# Altium footprint library lianchen_lib.PcbLib: 233 footprints (part 1 of 15)
Each footprint in its own frame and in the unit in brackets; x right, y up, seen from the top. Pads: shape width x height; smd on the part's side, far side on the other; paste and mask are expansions set on the pad; w line width, h text height; cw(c..) or ccw(c..) is an arc to the next point about the centre after c.
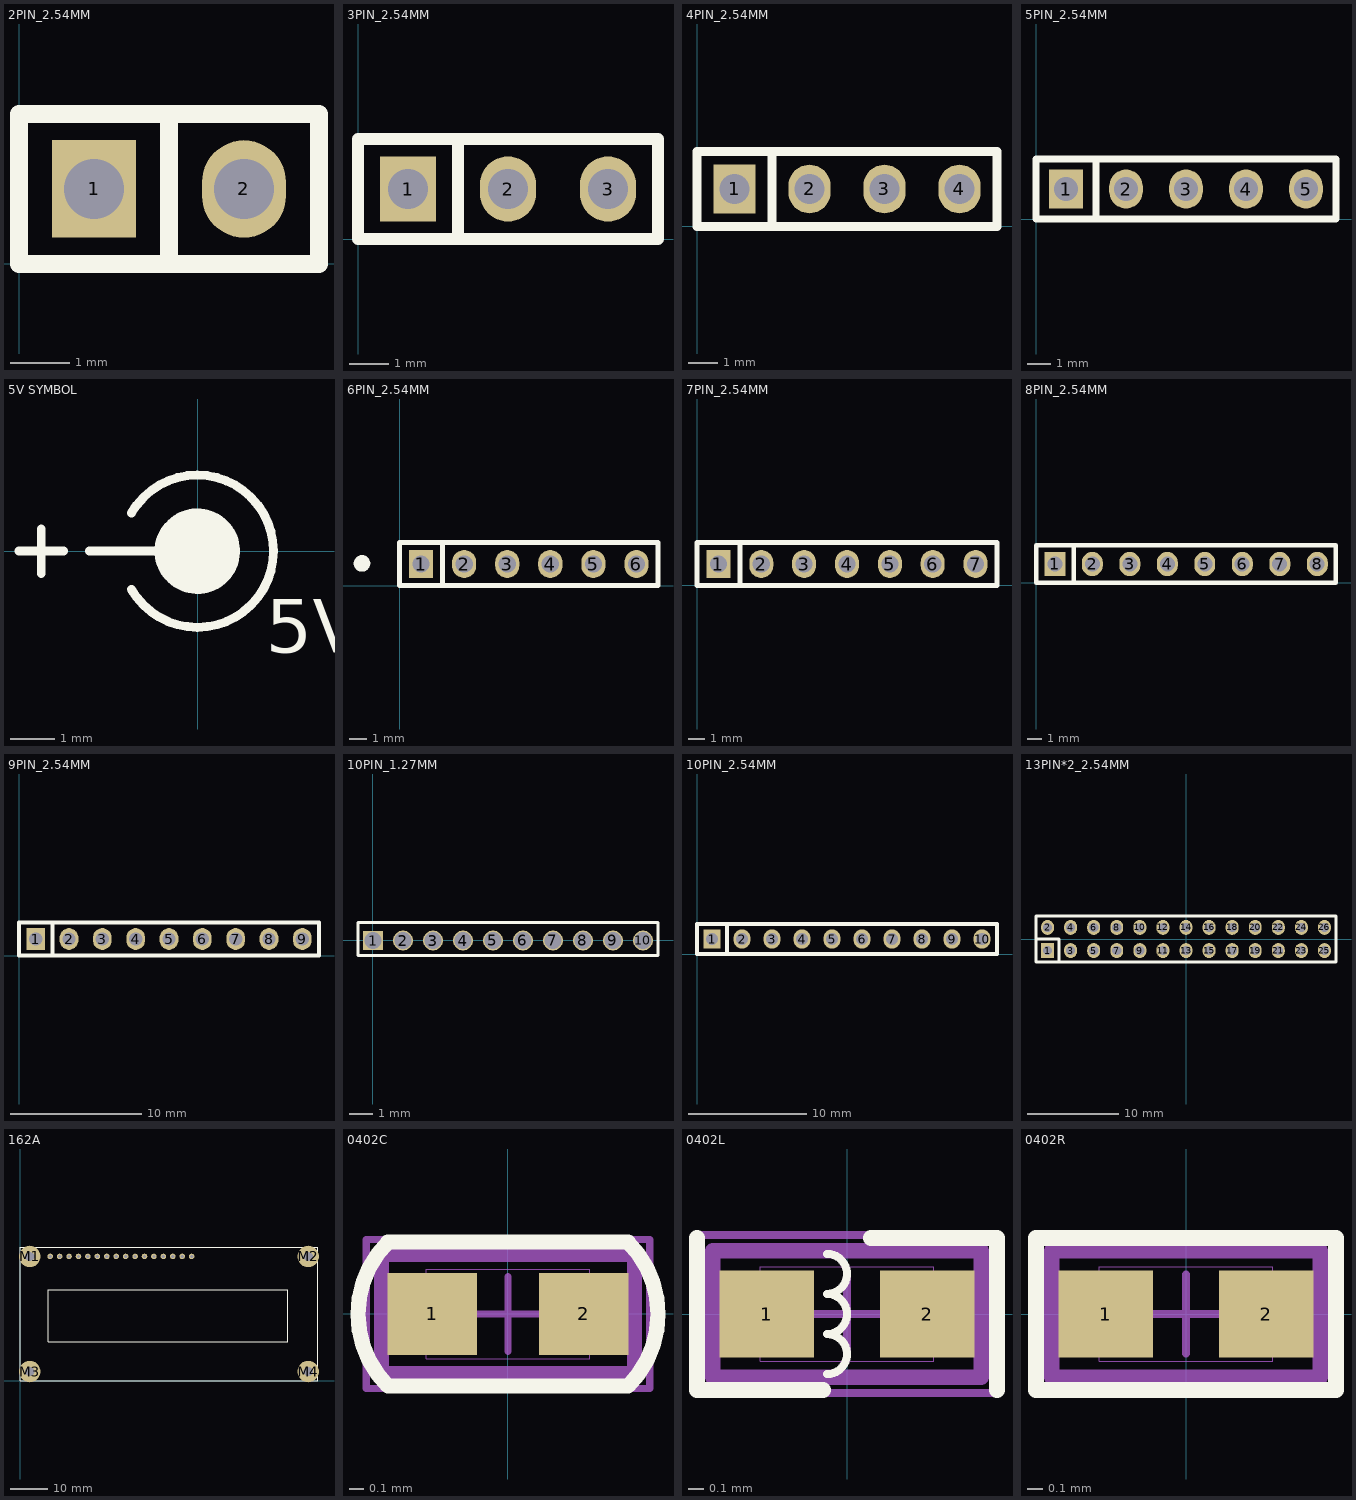
[diagram p0: the footprints below, top view; thin cyan lines are the x and y axes]

## 2PIN_2.54MM [mil]
pads (2):
  rect 56x65 hole 40: 1(50,50)
  oval 56x65 hole 40: 2(150,50)
Top Overlay:
  lines w12: 100,0 100,100 0,100 0,0 200,0
  lines w12.01: 100,100 200,100 200,0
3D body "HEADER.STEP": height 298.43, standoff -115.75, extent 100,0 200,100
3D body "HEADER.STEP": height 298.43, standoff -115.75, extent 0,0 100,100

## 3PIN_2.54MM [mil]
pads (3):
  rect 56x65 hole 40: 1(50,50)
  oval 56x65 hole 40: 2(150,50) 3(250,50)
Top Overlay:
  lines w12: 100,0 100,100 ; 100,100 0,100 0,0 300,0 300,100 100,100
3D body "HEADER.STEP": height 298.43, standoff -115.75, extent 200,0 300,100
3D body "HEADER.STEP": height 298.43, standoff -115.75, extent 0,0 100,100
3D body "HEADER.STEP": height 298.43, standoff -115.75, extent 100,0 200,100

## 4PIN_2.54MM [mil]
pads (4):
  rect 56x65 hole 40: 1(50,50)
  oval 56x65 hole 40: 2(150,50) 3(250,50) 4(350,50)
Top Overlay:
  lines w12: 100,0 100,100 0,100 ; 0,100 400,100 400,0 0,0 0,100
3D body "HEADER.STEP": height 298.43, standoff -115.75, extent 100,0 200,100
3D body "HEADER.STEP": height 298.43, standoff -115.75, extent 0,0 100,100
3D body "HEADER.STEP": height 298.43, standoff -115.75, extent 300,0 400,100
3D body "HEADER.STEP": height 298.43, standoff -115.75, extent 200,0 300,100

## 5PIN_2.54MM [mil]
pads (5):
  rect 56x65 hole 40: 1(50,50)
  oval 56x65 hole 40: 2(150,50) 3(250,50) 4(350,50) 5(450,50)
Top Overlay:
  lines w12: 100,0 100,100 ; 0,0 0,100 500,100 500,0 0,0
3D body "HEADER.STEP": height 298.43, standoff -115.75, extent 400,0 500,100
3D body "HEADER.STEP": height 298.43, standoff -115.75, extent 200,0 300,100
3D body "HEADER.STEP": height 298.43, standoff -115.75, extent 300,0 400,100
3D body "HEADER.STEP": height 298.43, standoff -115.75, extent 0,0 100,100
3D body "HEADER.STEP": height 298.43, standoff -115.75, extent 100,0 200,100

## 5V SYMBOL [mm]
Top Overlay:
  circle w1: c-0.007,-0.002 r0.458
  lines w0.2: -4.007,-0.002 -3.007,-0.002 ; -3.507,-0.502 -3.507,0.498 ; -2.423,-0.002 -0.007,-0.002 ; -1.486,-0.856 ccw(c-0.007,-0.002) -1.486,0.853
  text "5V DC" at 1.524,-2.286 h1.2

## 6PIN_2.54MM [mil]
pads (6):
  rect 56x65 hole 40: 1(50,50)
  oval 56x65 hole 40: 2(150,50) 3(250,50) 4(350,50) 5(450,50) 6(550,50)
Top Overlay:
  circle w20: c-87.22,51.4 r9.22
  lines w12: 100,0 100,100 ; 0,0 0,100 600,100 600,0 0,0
3D body "HEADER.STEP": height 298.43, standoff -115.75, extent 400,0 500,100
3D body "HEADER.STEP": height 298.43, standoff -115.75, extent 500,0 600,100
3D body "HEADER.STEP": height 298.43, standoff -115.75, extent 200,0 300,100
3D body "HEADER.STEP": height 298.43, standoff -115.75, extent 300,0 400,100
3D body "HEADER.STEP": height 298.43, standoff -115.75, extent 0,0 100,100
3D body "HEADER.STEP": height 298.43, standoff -115.75, extent 100,0 200,100

## 7PIN_2.54MM [mil]
pads (7):
  rect 56x65 hole 40: 1(50,50)
  oval 56x65 hole 40: 2(150,50) 3(250,50) 4(350,50) 5(450,50) 6(550,50) 7(650,50)
Top Overlay:
  lines w12: 100,0 100,100 ; 0,0 700,0 700,100 0,100 0,0
3D body "HEADER.STEP": height 298.43, standoff -115.75, extent 100,0 200,100
3D body "HEADER.STEP": height 298.43, standoff -115.75, extent 0,0 100,100
3D body "HEADER.STEP": height 298.43, standoff -115.75, extent 300,0 400,100
3D body "HEADER.STEP": height 298.43, standoff -115.75, extent 200,0 300,100
3D body "HEADER.STEP": height 298.43, standoff -115.75, extent 500,0 600,100
3D body "HEADER.STEP": height 298.43, standoff -115.75, extent 400,0 500,100
3D body "HEADER.STEP": height 298.43, standoff -115.75, extent 600,0 700,100

## 8PIN_2.54MM [mil]
pads (8):
  rect 56x65 hole 40: 1(50,50)
  oval 56x65 hole 40: 2(150,50) 3(250,50) 4(350,50) 5(450,50) 6(550,50) 7(650,50) 8(750,50)
Top Overlay:
  lines w12: 100,0 100,100 ; 0,0 800,0 800,100 0,100 0,0
3D body "HEADER.STEP": height 298.43, standoff -115.75, extent 100,0 200,100
3D body "HEADER.STEP": height 298.43, standoff -115.75, extent 0,0 100,100
3D body "HEADER.STEP": height 298.43, standoff -115.75, extent 300,0 400,100
3D body "HEADER.STEP": height 298.43, standoff -115.75, extent 200,0 300,100
3D body "HEADER.STEP": height 298.43, standoff -115.75, extent 500,0 600,100
3D body "HEADER.STEP": height 298.43, standoff -115.75, extent 400,0 500,100
3D body "HEADER.STEP": height 298.43, standoff -115.75, extent 700,0 800,100
3D body "HEADER.STEP": height 298.43, standoff -115.75, extent 600,0 700,100

## 9PIN_2.54MM [mil]
pads (9):
  rect 56x65 hole 40: 1(50,50)
  oval 56x65 hole 40: 2(150,50) 3(250,50) 4(350,50) 5(450,50) 6(550,50) 7(650,50) 8(750,50) 9(850,50)
Top Overlay:
  lines w12: 100,0 100,100 ; 0,0 900,0 900,100 0,100 0,0
3D body "HEADER.STEP": height 298.43, standoff -115.75, extent 100,0 200,100
3D body "HEADER.STEP": height 298.43, standoff -115.75, extent 0,0 100,100
3D body "HEADER.STEP": height 298.43, standoff -115.75, extent 300,0 400,100
3D body "HEADER.STEP": height 298.43, standoff -115.75, extent 200,0 300,100
3D body "HEADER.STEP": height 298.43, standoff -115.75, extent 500,0 600,100
3D body "HEADER.STEP": height 298.43, standoff -115.75, extent 400,0 500,100
3D body "HEADER.STEP": height 298.43, standoff -115.75, extent 700,0 800,100
3D body "HEADER.STEP": height 298.43, standoff -115.75, extent 600,0 700,100
3D body "HEADER.STEP": height 298.43, standoff -115.75, extent 800,0 900,100

## 10PIN_1.27MM [mm]
height 6.8
pads (10):
  rect 0.85x0.8 hole 0.72: 1(0,0)
  round 0.85 hole 0.72: 2(1.27,0) 3(2.54,0) 4(3.81,0) 5(5.08,0) 6(6.35,0) 7(7.62,0) 8(8.89,0) 9(10.16,0) 10(11.43,0)
Top Overlay:
  lines w0.127: -0.635,-0.635 -0.635,0.762 12.065,0.762 12.065,-0.635 -0.635,-0.635

## 10PIN_2.54MM [mil]
height 456.69
pads (10):
  rect 56x65 hole 40: 1(50,50)
  oval 56x65 hole 40: 2(150,50) 3(250,50) 4(350,50) 5(450,50) 6(550,50) 7(650,50) 8(750,50) 9(850,50) 10(950,50)
Top Overlay:
  lines w12: 100,0 100,100 ; 0,0 0,100 1000,100 1000,0 0,0
3D body "HEADER.STEP": height 298.43, standoff -115.75, extent 800,0 900,100
3D body "HEADER.STEP": height 298.43, standoff -115.75, extent 900,0 1000,100
3D body "HEADER.STEP": height 298.43, standoff -115.75, extent 600,0 700,100
3D body "HEADER.STEP": height 298.43, standoff -115.75, extent 700,0 800,100
3D body "HEADER.STEP": height 298.43, standoff -115.75, extent 400,0 500,100
3D body "HEADER.STEP": height 298.43, standoff -115.75, extent 500,0 600,100
3D body "HEADER.STEP": height 298.43, standoff -115.75, extent 200,0 300,100
3D body "HEADER.STEP": height 298.43, standoff -115.75, extent 300,0 400,100
3D body "HEADER.STEP": height 298.43, standoff -115.75, extent 0,0 100,100
3D body "HEADER.STEP": height 298.43, standoff -115.75, extent 100,0 200,100

## 13PIN*2_2.54MM [mil]
height 7.87
pads (26):
  rect 56x65 hole 40: 1(-600,-50)
  oval 56x65 hole 40: 2(-600,50) 3(-500,-50) 4(-500,50) 5(-400,-50) 6(-400,50) 7(-300,-50) 8(-300,50) 9(-200,-50) 10(-200,50) 11(-100,-50) 12(-100,50) 13(0,-50) 14(0,50) 15(100,-50) 16(100,50) 17(200,-50) 18(200,50) 19(300,-50) 20(300,50) 21(400,-50) 22(400,50) 23(500,-50) 24(500,50) 25(600,-50) 26(600,50)
Top Overlay:
  lines w12: -650,0 -550,0 -550,-100 ; -650,-100 650,-100 650,100 -650,100 -650,-100
3D body "HEADER.STEP": height 298.43, standoff -115.75, extent -550,-100 -450,0
3D body "HEADER.STEP": height 298.43, standoff -115.75, extent -650,-100 -550,0
3D body "HEADER.STEP": height 298.43, standoff -115.75, extent -550,0 -450,100
3D body "HEADER.STEP": height 298.43, standoff -115.75, extent -650,0 -550,100
3D body "HEADER.STEP": height 298.43, standoff -115.75, extent -350,-100 -250,0
3D body "HEADER.STEP": height 298.43, standoff -115.75, extent -450,-100 -350,0
3D body "HEADER.STEP": height 298.43, standoff -115.75, extent -350,0 -250,100
3D body "HEADER.STEP": height 298.43, standoff -115.75, extent -450,0 -350,100
3D body "HEADER.STEP": height 298.43, standoff -115.75, extent -150,-100 -50,0
3D body "HEADER.STEP": height 298.43, standoff -115.75, extent -250,-100 -150,0
3D body "HEADER.STEP": height 298.43, standoff -115.75, extent -150,0 -50,100
3D body "HEADER.STEP": height 298.43, standoff -115.75, extent -250,0 -150,100
3D body "HEADER.STEP": height 298.43, standoff -115.75, extent 50,-100 150,0
3D body "HEADER.STEP": height 298.43, standoff -115.75, extent -50,-100 50,0
3D body "HEADER.STEP": height 298.43, standoff -115.75, extent 50,0 150,100
3D body "HEADER.STEP": height 298.43, standoff -115.75, extent -50,0 50,100
3D body "HEADER.STEP": height 298.43, standoff -115.75, extent 250,-100 350,0
3D body "HEADER.STEP": height 298.43, standoff -115.75, extent 150,-100 250,0
3D body "HEADER.STEP": height 298.43, standoff -115.75, extent 250,0 350,100
3D body "HEADER.STEP": height 298.43, standoff -115.75, extent 150,0 250,100
3D body "HEADER.STEP": height 298.43, standoff -115.75, extent 450,-100 550,0
3D body "HEADER.STEP": height 298.43, standoff -115.75, extent 350,-100 450,0
3D body "HEADER.STEP": height 298.43, standoff -115.75, extent 450,0 550,100
3D body "HEADER.STEP": height 298.43, standoff -115.75, extent 350,0 450,100
3D body "HEADER.STEP": height 298.43, standoff -115.75, extent 550,-100 650,0
3D body "HEADER.STEP": height 298.43, standoff -115.75, extent 550,0 650,100

## 162A [mm]
pads (20):
  round 1.5 hole 0.9: 1(8.001,33.503) 2(10.541,33.503) 3(13.081,33.503) 4(15.621,33.503) 5(18.161,33.503) 6(20.701,33.503) 7(23.241,33.503) 8(25.781,33.503) 9(28.321,33.503) 10(30.861,33.503) 11(33.401,33.503) 12(35.941,33.503) 13(38.481,33.503) 14(41.021,33.503) 15(43.561,33.503) 16(46.101,33.503)
  round 5.8 / inner round 0 / far side round 0 hole 2.5 unplated: M1(2.501,33.503) M2(77.501,33.503) M3(2.501,2.503) M4(77.501,2.503)
Top Overlay:
  lines w0.2: 0.001,0.003 0.001,36.003 80.001,36.003 80.001,0.003 0.001,0.003 ; 7.501,10.503 7.501,24.503 72.001,24.503 72.001,10.503 7.501,10.503

## 0402C [mm]
height 0.025
pads (2):
  rect 0.6x0.55 smd mask+0.025: 1(-0.508,0) 2(0.508,0)
Top Overlay:
  lines w0.102: -0.807,0.482 ccw(c-0.326,0) -0.806,-0.483 0.806,-0.483 ccw(c0.326,0) 0.807,0.482 0.806,0.483 -0.806,0.483 -0.807,0.482
Mechanical 15:
  lines w0.1: -0.85,-0.4 -0.85,0.4 0.85,0.4 0.85,-0.4 -0.85,-0.4
  text "1" at -0.082,-0.225 h0.38
Mechanical 16:
  lines w0.001: -0.55,-0.3 -0.55,0.3 0.55,0.3 0.55,-0.3 -0.55,-0.3
  lines w0.05: -0.25,0 0.25,0 ; 0,-0.25 0,0.25 ; -0.95,-0.5 -0.95,0.5 0.95,0.5 0.95,-0.5 -0.95,-0.5
3D body "0402C.stp": height 0.5, standoff 0, extent -0.508,-0.229 0.492,0.271

## 0402L [mm]
height 0.025
pads (2):
  rect 0.6x0.55 smd mask+0.025: 1(-0.508,0) 2(0.508,0)
Top Overlay:
  lines w0.051: -0.127,-0.381 ccw(c-0.127,-0.254) -0.127,-0.127 ccw(c-0.127,0) -0.127,0.127 ccw(c-0.127,0.254) -0.127,0.381
  lines w0.102: -0.95,0.483 -0.95,-0.483 -0.152,-0.483 ; 0.152,0.483 0.95,0.483 0.95,-0.483
Mechanical 15:
  lines w0.1: -0.85,-0.4 0.85,-0.4 0.85,0.4 -0.85,0.4 -0.85,-0.4
  text "1" at -0.076,-0.178 h0.38
Mechanical 16:
  lines w0.001: -0.55,-0.3 0.55,-0.3 0.55,0.3 -0.55,0.3 -0.55,-0.3
  lines w0.05: -0.25,0 0.25,0 ; 0,-0.25 0,0.25 ; -0.95,-0.5 0.95,-0.5 0.95,0.5 -0.95,0.5 -0.95,-0.5
3D body "R0402.STEP": height 0.35, standoff 0, extent -0.475,-0.254 0.525,0.246

## 0402R [mm]
height 0.025
pads (2):
  rect 0.6x0.55 smd mask+0.025: 1(-0.508,0) 2(0.508,0)
Top Overlay:
  lines w0.102: -0.95,-0.483 -0.95,0.483 0.95,0.483 0.95,-0.483 -0.95,-0.483
Mechanical 15:
  lines w0.1: -0.85,-0.4 0.85,-0.4 0.85,0.4 -0.85,0.4 -0.85,-0.4
  text "1" at -0.076,-0.178 h0.38
Mechanical 16:
  lines w0.001: -0.55,-0.3 0.55,-0.3 0.55,0.3 -0.55,0.3 -0.55,-0.3
  lines w0.05: -0.25,0 0.25,0 ; 0,-0.25 0,0.25 ; -0.95,-0.5 0.95,-0.5 0.95,0.5 -0.95,0.5 -0.95,-0.5
3D body "R0402.STEP": height 0.35, standoff 0, extent -0.475,-0.254 0.525,0.246